# EAGLE library part PCA9685 (library UNIT_Biblioteca_Modulos)
PCA9685 Source: Datasheet <https://uelectronics.com/wp-content/uploads/2018/03/PCA9685-Datasheet.pdf> SKU: Propietario: UNIT Electronics Desarrollador: Alberto Villanueva
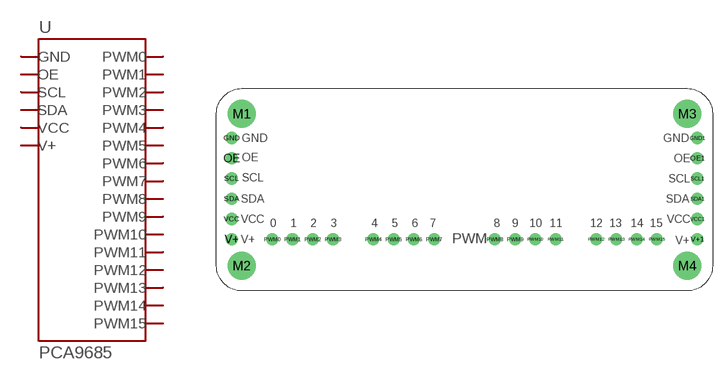
[diagram p27: symbol with the pads of PCA9685; footprint PCA9685]

Designator prefix U

## PCA9685 (DESCRIPTION: 16-Channel 12-bit PWM/Servo Driver - I2C interface; MANUFACTURER_NAME: Adafruit; MANUFACTURER_PART_NUMBER: PCA9685; VENDOR_PART_NUMBER: AR0389; VENDOR_PRICE-STOCK: https://uelectronics.com/producto/pca9685-16-canales-pwm-i2c-12-bit/?srsltid=AfmBOooY5DTz4LqHMsW37n8UE6gl52BgoFGIZbtnhEdPcbca6iYNO8Nx)  [PCA9685]
GND  GND
GND1  GND
OE  OE
OE1  OE
PWM0  PWM0
PWM1  PWM1
PWM2  PWM2
PWM3  PWM3
PWM4  PWM4
PWM5  PWM5
PWM6  PWM6
PWM7  PWM7
PWM8  PWM8
PWM9  PWM9
PWM10  PWM10
PWM11  PWM11
PWM12  PWM12
PWM13  PWM13
PWM14  PWM14
PWM15  PWM15
SCL  SCL
SCL1  SCL
SDA  SDA
SDA1  SDA
V+  V+
V+1  V+
VCC  VCC
VCC1  VCC

## Footprint PCA9685 (pad centres in mm)
drill 1.02: GND -29.21,6.477; GND1 29.21,6.477; OE -29.21,3.937; OE1 29.21,3.937; PWM0 -24.125,-6.223; PWM1 -21.585,-6.223; PWM2 -19.045,-6.223; PWM3 -16.505,-6.223; PWM4 -11.43,-6.223; PWM5 -8.89,-6.223; PWM6 -6.35,-6.223; PWM7 -3.81,-6.223; PWM8 3.81,-6.223; PWM9 6.35,-6.223; PWM10 8.89,-6.223; PWM11 11.43,-6.223; PWM12 16.51,-6.223; PWM13 19.05,-6.223; PWM14 21.59,-6.223; PWM15 24.13,-6.223; SCL -29.21,1.397; SCL1 29.21,1.397; SDA -29.21,-1.143; SDA1 29.21,-1.143; V+ -29.21,-6.223; V+1 29.21,-6.223; VCC -29.21,-3.683; VCC1 29.21,-3.683
drill 2.5: M1 -27.94,9.525; M2 -27.94,-9.525; M3 27.94,9.525; M4 27.94,-9.525